# EAGLE library part PAM8016 (library Sparky)
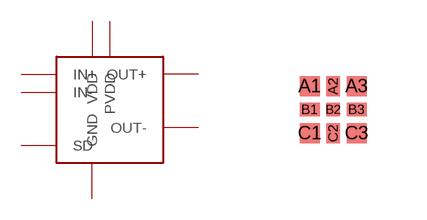
[diagram p28: symbol with the pads of U-FLGA1515-9; footprint U-FLGA1515-9]

Designator prefix -

## PAM8016  [U-FLGA1515-9]
A1  IN+
A2  GND
A3  OUT-
B1  VDD
B2  PVDD
B3  GND
C1  IN-
C2  SD
C3  OUT+

## Footprint U-FLGA1515-9 (pad centres in mm)
smd 0.5 x 0.5: A1 -0.588,0.588; A3 0.588,0.588; C1 -0.588,-0.588; C3 0.588,-0.588
smd 0.35 x 0.5: A2 0,0.588; C2 0,-0.588
smd 0.5 x 0.35: B1 -0.588,0; B3 0.588,0
smd 0.35 x 0.35: B2 0,0